# Altium schematic symbol library LTSpiceLibrary.SchLib: 6 symbols
Pins are listed as number, name and electrical type; pins without a type are passive.

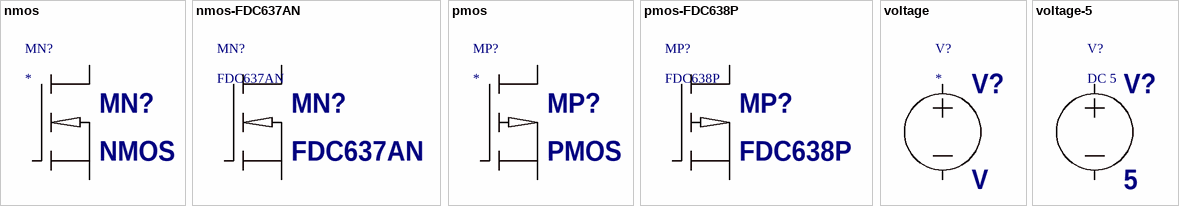
[diagram p0: symbols nmos to voltage-5]

## nmos
designator MN?  value NMOS  InstName: MN?
Prefix: MN
pins: 1 D, 2 G, 3 S

## nmos-FDC637AN
designator MN?, comment FDC637AN  InstName: MN?
Prefix: MN; Value: FDC637AN
simulation model nmos-FDC637AN
pins: 1 D, 2 G, 3 S

## pmos
designator MP?  value PMOS  InstName: MP?
Prefix: MP
pins: 1 D, 2 G, 3 S

## pmos-FDC638P
designator MP?, comment FDC638P  InstName: MP?
Prefix: MP; Value: FDC638P
simulation model pmos-FDC638P
pins: 1 D, 2 G, 3 S

## voltage
designator V?  value V  InstName: V?
PULSE voltage source; Prefix: V
simulation model voltage
pins: 1 +, 2 -

## voltage-5
designator V?, comment DC 5  value 5  InstName: V?
voltage source; Prefix: V; Value: 5; AC Magnitude: 1; AC Phase: 0
simulation model voltage-5
pins: 1 +, 2 -